# Altium schematic symbol library SENSIRION STS21.SchLib: 1 symbol
Pins are listed as number, name and electrical type; pins without a type are passive.

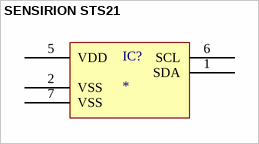
[diagram p0: symbol SENSIRION STS21]

## SENSIRION STS21
designator IC?
pins: 1 SDA, 2 VSS, 5 VDD, 6 SCL, 7 VSS